# Altium schematic symbol library Nuvoton_NUC123 Series.SchLib: 12 symbols
Pins are listed as number, name and electrical type; pins without a type are passive.

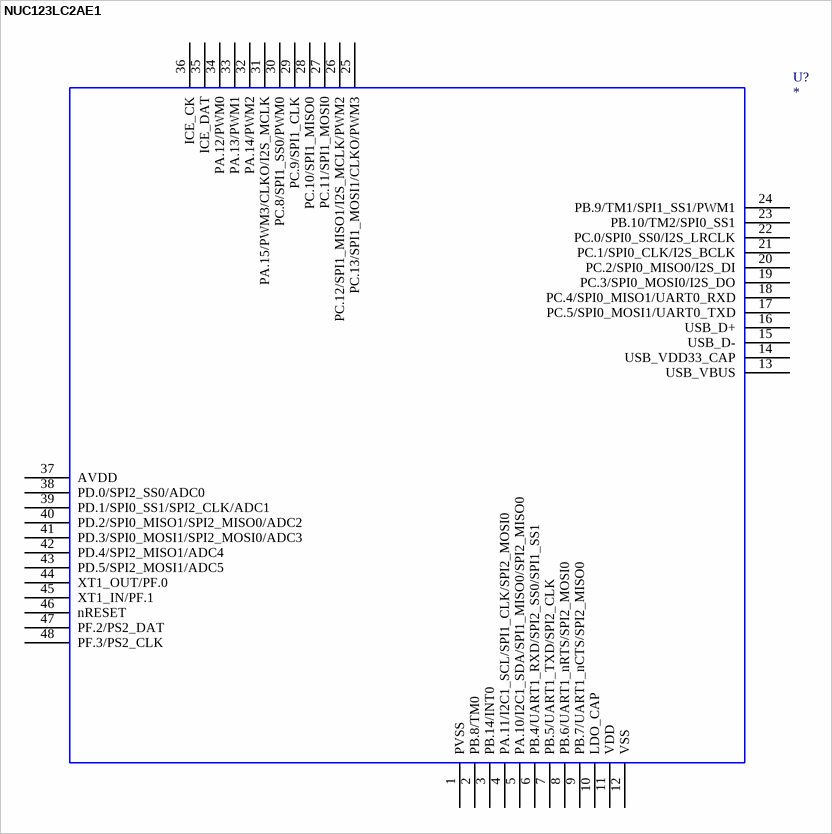
[diagram p0: symbol NUC123LC2AE1]

## NUC123LC2AE1
designator U?
NUC123LC2AE1; OriginalSymbolOrigin: *; NUC123LC2AE1: *; Value: *
footprint __MCU_LQFP_48__
pins: 1 PVSS, 2 PB.8/TM0, 3 PB.14/INT0, 4 PA.11/I2C1_SCL/SPI1_CLK/SPI2_MOSI0, 5 PA.10/I2C1_SDA/SPI1_MISO0/SPI2_MISO0, 6 PB.4/UART1_RXD/SPI2_SS0/SPI1_SS1, 7 PB.5/UART1_TXD/SPI2_CLK, 8 PB.6/UART1_nRTS/SPI2_MOSI0, 9 PB.7/UART1_nCTS/SPI2_MISO0, 10 LDO_CAP, 11 VDD, 12 VSS, 13 USB_VBUS, 14 USB_VDD33_CAP, 15 USB_D-, 16 USB_D+, 17 PC.5/SPI0_MOSI1/UART0_TXD, 18 PC.4/SPI0_MISO1/UART0_RXD, 19 PC.3/SPI0_MOSI0/I2S_DO, 20 PC.2/SPI0_MISO0/I2S_DI, 21 PC.1/SPI0_CLK/I2S_BCLK, 22 PC.0/SPI0_SS0/I2S_LRCLK, 23 PB.10/TM2/SPI0_SS1, 24 PB.9/TM1/SPI1_SS1/PWM1, 25 PC.13/SPI1_MOSI1/CLKO/PWM3, 26 PC.12/SPI1_MISO1/I2S_MCLK/PWM2, 27 PC.11/SPI1_MOSI0, 28 PC.10/SPI1_MISO0, 29 PC.9/SPI1_CLK, 30 PC.8/SPI1_SS0/PWM0, 31 PA.15/PWM3/CLKO/I2S_MCLK, 32 PA.14/PWM2, 33 PA.13/PWM1, 34 PA.12/PWM0, 35 ICE_DAT, 36 ICE_CK, 37 AVDD, 38 PD.0/SPI2_SS0/ADC0, 39 PD.1/SPI0_SS1/SPI2_CLK/ADC1, 40 PD.2/SPI0_MISO1/SPI2_MISO0/ADC2, 41 PD.3/SPI0_MOSI1/SPI2_MOSI0/ADC3, 42 PD.4/SPI2_MISO1/ADC4, 43 PD.5/SPI2_MOSI1/ADC5, 44 XT1_OUT/PF.0, 45 XT1_IN/PF.1, 46 nRESET, 47 PF.2/PS2_DAT, 48 PF.3/PS2_CLK
2 alternate drawings of the same symbol

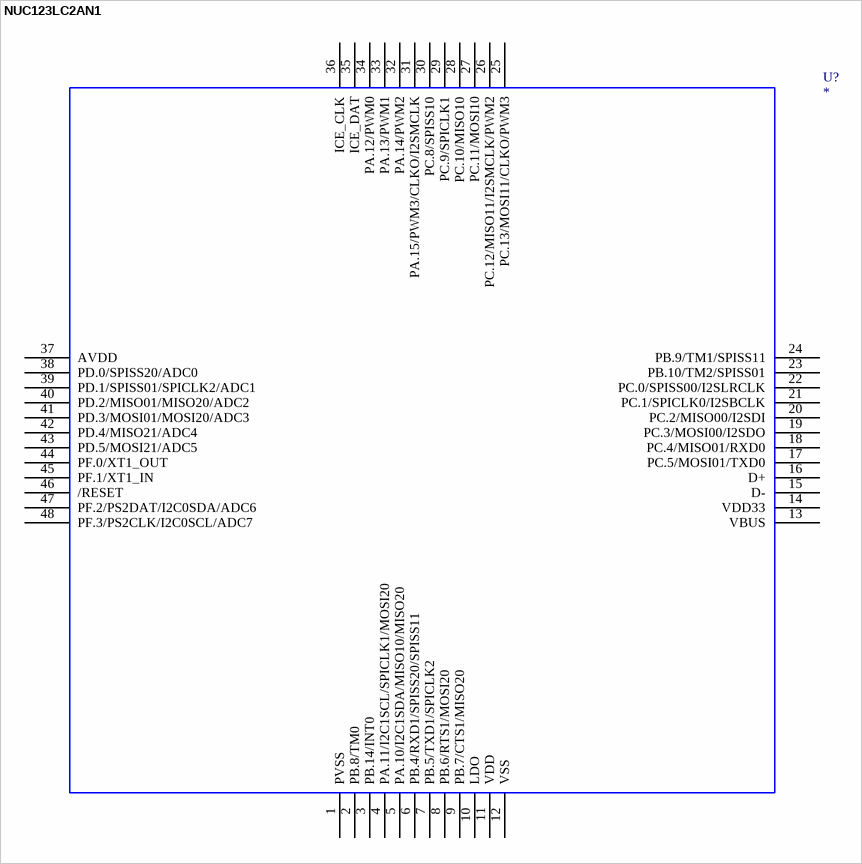
[diagram p1: symbol NUC123LC2AN1]

## NUC123LC2AN1
designator U?
NUC123LC2AN1; OriginalSymbolOrigin: *; NUC123LC2AN1: *; Value: *
footprint __MCU_LQFP_48__
pins: 1 PVSS, 2 PB.8/TM0, 3 PB.14/INT0, 4 PA.11/I2C1SCL/SPICLK1/MOSI20, 5 PA.10/I2C1SDA/MISO10/MISO20, 6 PB.4/RXD1/SPISS20/SPISS11, 7 PB.5/TXD1/SPICLK2, 8 PB.6/RTS1/MOSI20, 9 PB.7/CTS1/MISO20, 10 LDO, 11 VDD, 12 VSS, 13 VBUS, 14 VDD33, 15 D-, 16 D+, 17 PC.5/MOSI01/TXD0, 18 PC.4/MISO01/RXD0, 19 PC.3/MOSI00/I2SDO, 20 PC.2/MISO00/I2SDI, 21 PC.1/SPICLK0/I2SBCLK, 22 PC.0/SPISS00/I2SLRCLK, 23 PB.10/TM2/SPISS01, 24 PB.9/TM1/SPISS11, 25 PC.13/MOSI11/CLKO/PWM3, 26 PC.12/MISO11/I2SMCLK/PWM2, 27 PC.11/MOSI10, 28 PC.10/MISO10, 29 PC.9/SPICLK1, 30 PC.8/SPISS10, 31 PA.15/PWM3/CLKO/I2SMCLK, 32 PA.14/PWM2, 33 PA.13/PWM1, 34 PA.12/PWM0, 35 ICE_DAT, 36 ICE_CLK, 37 AVDD, 38 PD.0/SPISS20/ADC0, 39 PD.1/SPISS01/SPICLK2/ADC1, 40 PD.2/MISO01/MISO20/ADC2, 41 PD.3/MOSI01/MOSI20/ADC3, 42 PD.4/MISO21/ADC4, 43 PD.5/MOSI21/ADC5, 44 PF.0/XT1_OUT, 45 PF.1/XT1_IN, 46 /RESET, 47 PF.2/PS2DAT/I2C0SDA/ADC6, 48 PF.3/PS2CLK/I2C0SCL/ADC7
2 alternate drawings of the same symbol

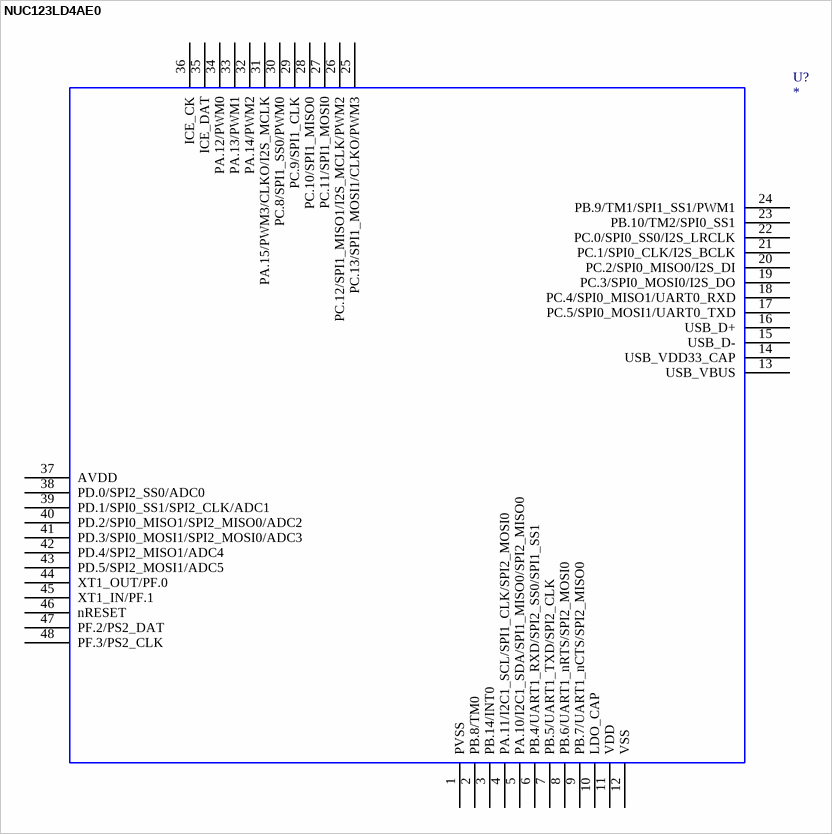
[diagram p2: symbol NUC123LD4AE0]

## NUC123LD4AE0
designator U?
NUC123LD4AE0; OriginalSymbolOrigin: *; NUC123LD4AE0: *; Value: *
footprint __MCU_LQFP_48__
pins: 1 PVSS, 2 PB.8/TM0, 3 PB.14/INT0, 4 PA.11/I2C1_SCL/SPI1_CLK/SPI2_MOSI0, 5 PA.10/I2C1_SDA/SPI1_MISO0/SPI2_MISO0, 6 PB.4/UART1_RXD/SPI2_SS0/SPI1_SS1, 7 PB.5/UART1_TXD/SPI2_CLK, 8 PB.6/UART1_nRTS/SPI2_MOSI0, 9 PB.7/UART1_nCTS/SPI2_MISO0, 10 LDO_CAP, 11 VDD, 12 VSS, 13 USB_VBUS, 14 USB_VDD33_CAP, 15 USB_D-, 16 USB_D+, 17 PC.5/SPI0_MOSI1/UART0_TXD, 18 PC.4/SPI0_MISO1/UART0_RXD, 19 PC.3/SPI0_MOSI0/I2S_DO, 20 PC.2/SPI0_MISO0/I2S_DI, 21 PC.1/SPI0_CLK/I2S_BCLK, 22 PC.0/SPI0_SS0/I2S_LRCLK, 23 PB.10/TM2/SPI0_SS1, 24 PB.9/TM1/SPI1_SS1/PWM1, 25 PC.13/SPI1_MOSI1/CLKO/PWM3, 26 PC.12/SPI1_MISO1/I2S_MCLK/PWM2, 27 PC.11/SPI1_MOSI0, 28 PC.10/SPI1_MISO0, 29 PC.9/SPI1_CLK, 30 PC.8/SPI1_SS0/PWM0, 31 PA.15/PWM3/CLKO/I2S_MCLK, 32 PA.14/PWM2, 33 PA.13/PWM1, 34 PA.12/PWM0, 35 ICE_DAT, 36 ICE_CK, 37 AVDD, 38 PD.0/SPI2_SS0/ADC0, 39 PD.1/SPI0_SS1/SPI2_CLK/ADC1, 40 PD.2/SPI0_MISO1/SPI2_MISO0/ADC2, 41 PD.3/SPI0_MOSI1/SPI2_MOSI0/ADC3, 42 PD.4/SPI2_MISO1/ADC4, 43 PD.5/SPI2_MOSI1/ADC5, 44 XT1_OUT/PF.0, 45 XT1_IN/PF.1, 46 nRESET, 47 PF.2/PS2_DAT, 48 PF.3/PS2_CLK
2 alternate drawings of the same symbol

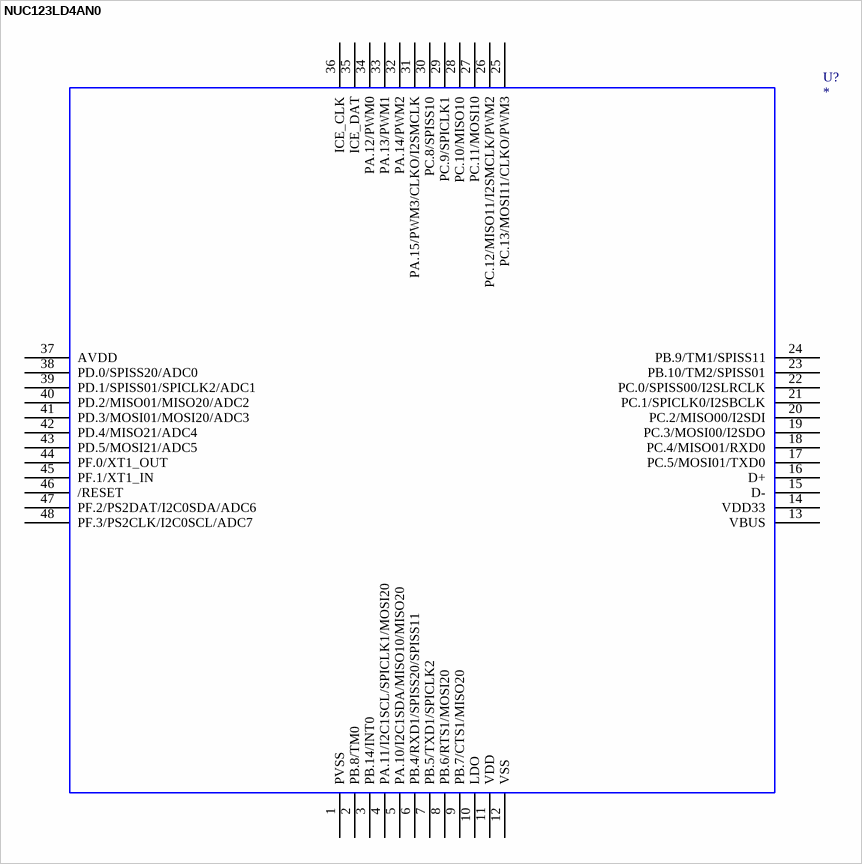
[diagram p3: symbol NUC123LD4AN0]

## NUC123LD4AN0
designator U?
NUC123LD4AN0; OriginalSymbolOrigin: *; NUC123LD4AN0: *; Value: *
footprint __MCU_LQFP_48__
pins: 1 PVSS, 2 PB.8/TM0, 3 PB.14/INT0, 4 PA.11/I2C1SCL/SPICLK1/MOSI20, 5 PA.10/I2C1SDA/MISO10/MISO20, 6 PB.4/RXD1/SPISS20/SPISS11, 7 PB.5/TXD1/SPICLK2, 8 PB.6/RTS1/MOSI20, 9 PB.7/CTS1/MISO20, 10 LDO, 11 VDD, 12 VSS, 13 VBUS, 14 VDD33, 15 D-, 16 D+, 17 PC.5/MOSI01/TXD0, 18 PC.4/MISO01/RXD0, 19 PC.3/MOSI00/I2SDO, 20 PC.2/MISO00/I2SDI, 21 PC.1/SPICLK0/I2SBCLK, 22 PC.0/SPISS00/I2SLRCLK, 23 PB.10/TM2/SPISS01, 24 PB.9/TM1/SPISS11, 25 PC.13/MOSI11/CLKO/PWM3, 26 PC.12/MISO11/I2SMCLK/PWM2, 27 PC.11/MOSI10, 28 PC.10/MISO10, 29 PC.9/SPICLK1, 30 PC.8/SPISS10, 31 PA.15/PWM3/CLKO/I2SMCLK, 32 PA.14/PWM2, 33 PA.13/PWM1, 34 PA.12/PWM0, 35 ICE_DAT, 36 ICE_CLK, 37 AVDD, 38 PD.0/SPISS20/ADC0, 39 PD.1/SPISS01/SPICLK2/ADC1, 40 PD.2/MISO01/MISO20/ADC2, 41 PD.3/MOSI01/MOSI20/ADC3, 42 PD.4/MISO21/ADC4, 43 PD.5/MOSI21/ADC5, 44 PF.0/XT1_OUT, 45 PF.1/XT1_IN, 46 /RESET, 47 PF.2/PS2DAT/I2C0SDA/ADC6, 48 PF.3/PS2CLK/I2C0SCL/ADC7
2 alternate drawings of the same symbol

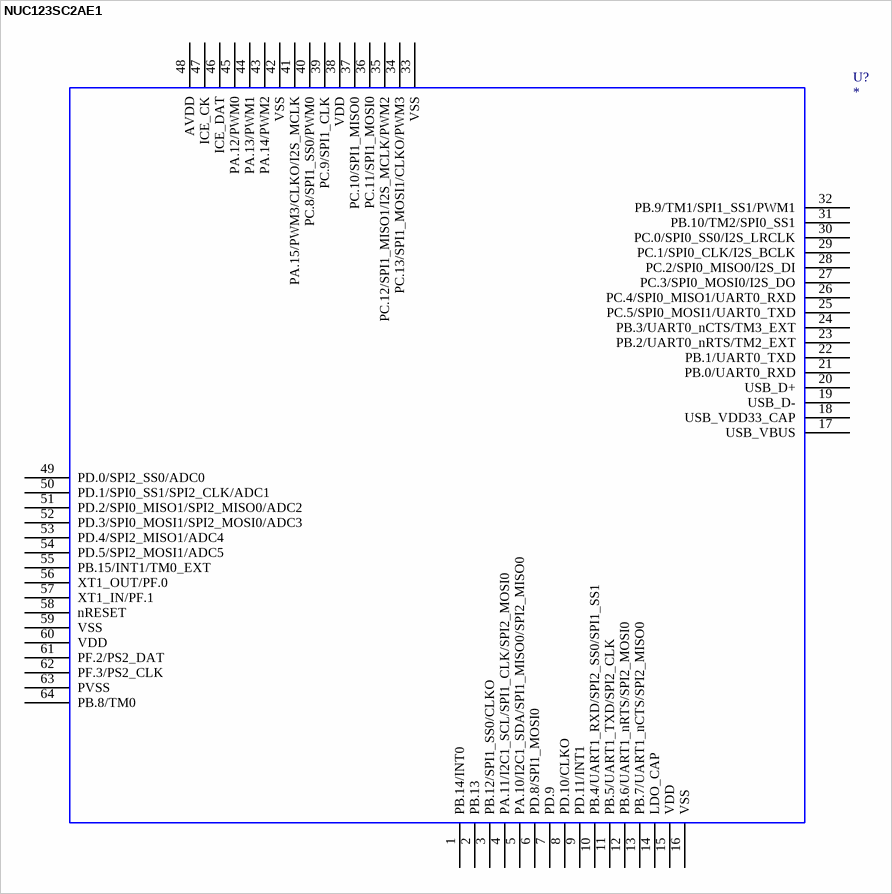
[diagram p4: symbol NUC123SC2AE1]

## NUC123SC2AE1
designator U?
NUC123SC2AE1; OriginalSymbolOrigin: *; NUC123SC2AE1: *; Value: *
footprint __MCU_LQFP_64_7x7__
pins: 1 PB.14/INT0, 2 PB.13, 3 PB.12/SPI1_SS0/CLKO, 4 PA.11/I2C1_SCL/SPI1_CLK/SPI2_MOSI0, 5 PA.10/I2C1_SDA/SPI1_MISO0/SPI2_MISO0, 6 PD.8/SPI1_MOSI0, 7 PD.9, 8 PD.10/CLKO, 9 PD.11/INT1, 10 PB.4/UART1_RXD/SPI2_SS0/SPI1_SS1, 11 PB.5/UART1_TXD/SPI2_CLK, 12 PB.6/UART1_nRTS/SPI2_MOSI0, 13 PB.7/UART1_nCTS/SPI2_MISO0, 14 LDO_CAP, 15 VDD, 16 VSS, 17 USB_VBUS, 18 USB_VDD33_CAP, 19 USB_D-, 20 USB_D+, 21 PB.0/UART0_RXD, 22 PB.1/UART0_TXD, 23 PB.2/UART0_nRTS/TM2_EXT, 24 PB.3/UART0_nCTS/TM3_EXT, 25 PC.5/SPI0_MOSI1/UART0_TXD, 26 PC.4/SPI0_MISO1/UART0_RXD, 27 PC.3/SPI0_MOSI0/I2S_DO, 28 PC.2/SPI0_MISO0/I2S_DI, 29 PC.1/SPI0_CLK/I2S_BCLK, 30 PC.0/SPI0_SS0/I2S_LRCLK, 31 PB.10/TM2/SPI0_SS1, 32 PB.9/TM1/SPI1_SS1/PWM1, 33 VSS, 34 PC.13/SPI1_MOSI1/CLKO/PWM3, 35 PC.12/SPI1_MISO1/I2S_MCLK/PWM2, 36 PC.11/SPI1_MOSI0, 37 PC.10/SPI1_MISO0, 38 VDD, 39 PC.9/SPI1_CLK, 40 PC.8/SPI1_SS0/PWM0, 41 PA.15/PWM3/CLKO/I2S_MCLK, 42 VSS, 43 PA.14/PWM2, 44 PA.13/PWM1, 45 PA.12/PWM0, 46 ICE_DAT, 47 ICE_CK, 48 AVDD, 49 PD.0/SPI2_SS0/ADC0, 50 PD.1/SPI0_SS1/SPI2_CLK/ADC1, 51 PD.2/SPI0_MISO1/SPI2_MISO0/ADC2, 52 PD.3/SPI0_MOSI1/SPI2_MOSI0/ADC3, 53 PD.4/SPI2_MISO1/ADC4, 54 PD.5/SPI2_MOSI1/ADC5, 55 PB.15/INT1/TM0_EXT, 56 XT1_OUT/PF.0, 57 XT1_IN/PF.1, 58 nRESET, 59 VSS, 60 VDD, 61 PF.2/PS2_DAT, 62 PF.3/PS2_CLK, 63 PVSS, 64 PB.8/TM0
2 alternate drawings of the same symbol

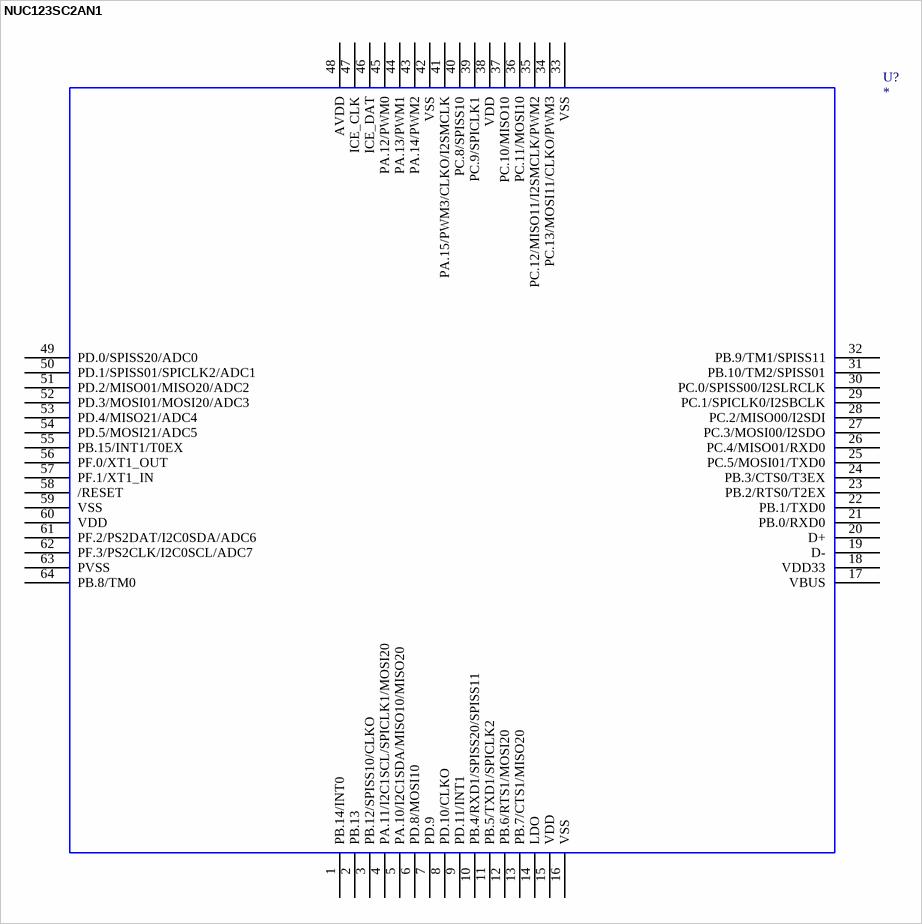
[diagram p5: symbol NUC123SC2AN1]

## NUC123SC2AN1
designator U?
NUC123SC2AN1; OriginalSymbolOrigin: *; NUC123SC2AN1: *; Value: *
footprint __MCU_LQFP_64_7x7__
pins: 1 PB.14/INT0, 2 PB.13, 3 PB.12/SPISS10/CLKO, 4 PA.11/I2C1SCL/SPICLK1/MOSI20, 5 PA.10/I2C1SDA/MISO10/MISO20, 6 PD.8/MOSI10, 7 PD.9, 8 PD.10/CLKO, 9 PD.11/INT1, 10 PB.4/RXD1/SPISS20/SPISS11, 11 PB.5/TXD1/SPICLK2, 12 PB.6/RTS1/MOSI20, 13 PB.7/CTS1/MISO20, 14 LDO, 15 VDD, 16 VSS, 17 VBUS, 18 VDD33, 19 D-, 20 D+, 21 PB.0/RXD0, 22 PB.1/TXD0, 23 PB.2/RTS0/T2EX, 24 PB.3/CTS0/T3EX, 25 PC.5/MOSI01/TXD0, 26 PC.4/MISO01/RXD0, 27 PC.3/MOSI00/I2SDO, 28 PC.2/MISO00/I2SDI, 29 PC.1/SPICLK0/I2SBCLK, 30 PC.0/SPISS00/I2SLRCLK, 31 PB.10/TM2/SPISS01, 32 PB.9/TM1/SPISS11, 33 VSS, 34 PC.13/MOSI11/CLKO/PWM3, 35 PC.12/MISO11/I2SMCLK/PWM2, 36 PC.11/MOSI10, 37 PC.10/MISO10, 38 VDD, 39 PC.9/SPICLK1, 40 PC.8/SPISS10, 41 PA.15/PWM3/CLKO/I2SMCLK, 42 VSS, 43 PA.14/PWM2, 44 PA.13/PWM1, 45 PA.12/PWM0, 46 ICE_DAT, 47 ICE_CLK, 48 AVDD, 49 PD.0/SPISS20/ADC0, 50 PD.1/SPISS01/SPICLK2/ADC1, 51 PD.2/MISO01/MISO20/ADC2, 52 PD.3/MOSI01/MOSI20/ADC3, 53 PD.4/MISO21/ADC4, 54 PD.5/MOSI21/ADC5, 55 PB.15/INT1/T0EX, 56 PF.0/XT1_OUT, 57 PF.1/XT1_IN, 58 /RESET, 59 VSS, 60 VDD, 61 PF.2/PS2DAT/I2C0SDA/ADC6, 62 PF.3/PS2CLK/I2C0SCL/ADC7, 63 PVSS, 64 PB.8/TM0
2 alternate drawings of the same symbol

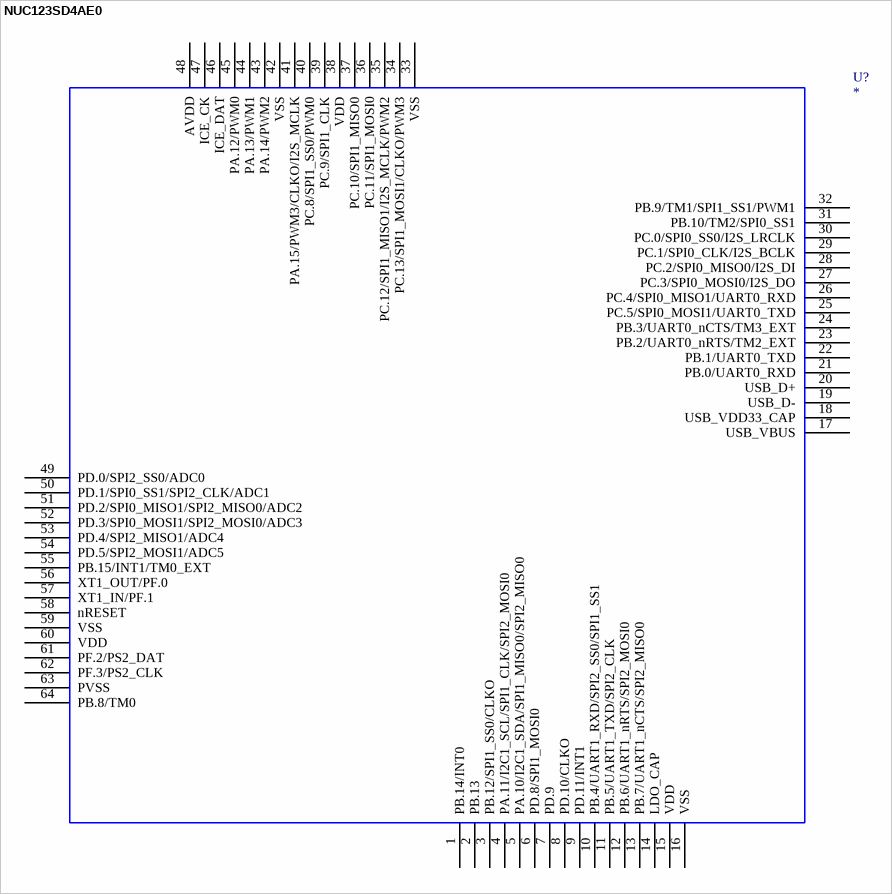
[diagram p6: symbol NUC123SD4AE0]

## NUC123SD4AE0
designator U?
NUC123SD4AE0; OriginalSymbolOrigin: *; NUC123SD4AE0: *; Value: *
footprint __MCU_LQFP_64_7x7__
pins: 1 PB.14/INT0, 2 PB.13, 3 PB.12/SPI1_SS0/CLKO, 4 PA.11/I2C1_SCL/SPI1_CLK/SPI2_MOSI0, 5 PA.10/I2C1_SDA/SPI1_MISO0/SPI2_MISO0, 6 PD.8/SPI1_MOSI0, 7 PD.9, 8 PD.10/CLKO, 9 PD.11/INT1, 10 PB.4/UART1_RXD/SPI2_SS0/SPI1_SS1, 11 PB.5/UART1_TXD/SPI2_CLK, 12 PB.6/UART1_nRTS/SPI2_MOSI0, 13 PB.7/UART1_nCTS/SPI2_MISO0, 14 LDO_CAP, 15 VDD, 16 VSS, 17 USB_VBUS, 18 USB_VDD33_CAP, 19 USB_D-, 20 USB_D+, 21 PB.0/UART0_RXD, 22 PB.1/UART0_TXD, 23 PB.2/UART0_nRTS/TM2_EXT, 24 PB.3/UART0_nCTS/TM3_EXT, 25 PC.5/SPI0_MOSI1/UART0_TXD, 26 PC.4/SPI0_MISO1/UART0_RXD, 27 PC.3/SPI0_MOSI0/I2S_DO, 28 PC.2/SPI0_MISO0/I2S_DI, 29 PC.1/SPI0_CLK/I2S_BCLK, 30 PC.0/SPI0_SS0/I2S_LRCLK, 31 PB.10/TM2/SPI0_SS1, 32 PB.9/TM1/SPI1_SS1/PWM1, 33 VSS, 34 PC.13/SPI1_MOSI1/CLKO/PWM3, 35 PC.12/SPI1_MISO1/I2S_MCLK/PWM2, 36 PC.11/SPI1_MOSI0, 37 PC.10/SPI1_MISO0, 38 VDD, 39 PC.9/SPI1_CLK, 40 PC.8/SPI1_SS0/PWM0, 41 PA.15/PWM3/CLKO/I2S_MCLK, 42 VSS, 43 PA.14/PWM2, 44 PA.13/PWM1, 45 PA.12/PWM0, 46 ICE_DAT, 47 ICE_CK, 48 AVDD, 49 PD.0/SPI2_SS0/ADC0, 50 PD.1/SPI0_SS1/SPI2_CLK/ADC1, 51 PD.2/SPI0_MISO1/SPI2_MISO0/ADC2, 52 PD.3/SPI0_MOSI1/SPI2_MOSI0/ADC3, 53 PD.4/SPI2_MISO1/ADC4, 54 PD.5/SPI2_MOSI1/ADC5, 55 PB.15/INT1/TM0_EXT, 56 XT1_OUT/PF.0, 57 XT1_IN/PF.1, 58 nRESET, 59 VSS, 60 VDD, 61 PF.2/PS2_DAT, 62 PF.3/PS2_CLK, 63 PVSS, 64 PB.8/TM0
2 alternate drawings of the same symbol

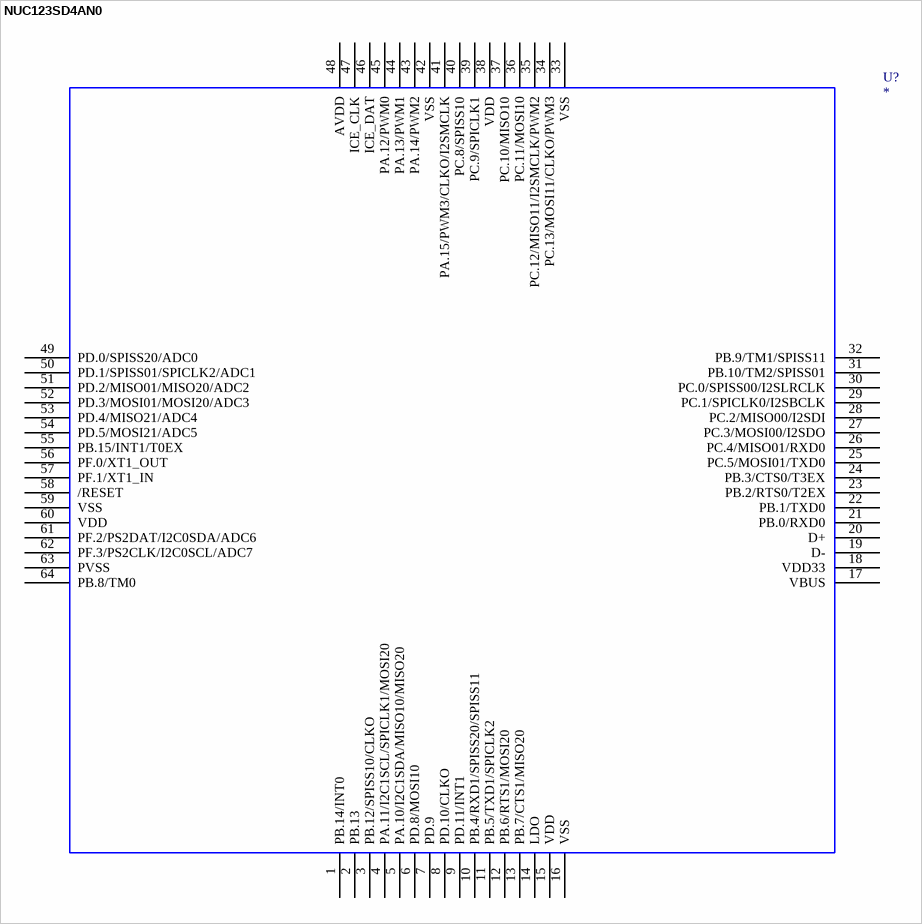
[diagram p7: symbol NUC123SD4AN0]

## NUC123SD4AN0
designator U?
NUC123SD4AN0; OriginalSymbolOrigin: *; NUC123SD4AN0: *; Value: *
footprint __MCU_LQFP_64_7x7__
pins: 1 PB.14/INT0, 2 PB.13, 3 PB.12/SPISS10/CLKO, 4 PA.11/I2C1SCL/SPICLK1/MOSI20, 5 PA.10/I2C1SDA/MISO10/MISO20, 6 PD.8/MOSI10, 7 PD.9, 8 PD.10/CLKO, 9 PD.11/INT1, 10 PB.4/RXD1/SPISS20/SPISS11, 11 PB.5/TXD1/SPICLK2, 12 PB.6/RTS1/MOSI20, 13 PB.7/CTS1/MISO20, 14 LDO, 15 VDD, 16 VSS, 17 VBUS, 18 VDD33, 19 D-, 20 D+, 21 PB.0/RXD0, 22 PB.1/TXD0, 23 PB.2/RTS0/T2EX, 24 PB.3/CTS0/T3EX, 25 PC.5/MOSI01/TXD0, 26 PC.4/MISO01/RXD0, 27 PC.3/MOSI00/I2SDO, 28 PC.2/MISO00/I2SDI, 29 PC.1/SPICLK0/I2SBCLK, 30 PC.0/SPISS00/I2SLRCLK, 31 PB.10/TM2/SPISS01, 32 PB.9/TM1/SPISS11, 33 VSS, 34 PC.13/MOSI11/CLKO/PWM3, 35 PC.12/MISO11/I2SMCLK/PWM2, 36 PC.11/MOSI10, 37 PC.10/MISO10, 38 VDD, 39 PC.9/SPICLK1, 40 PC.8/SPISS10, 41 PA.15/PWM3/CLKO/I2SMCLK, 42 VSS, 43 PA.14/PWM2, 44 PA.13/PWM1, 45 PA.12/PWM0, 46 ICE_DAT, 47 ICE_CLK, 48 AVDD, 49 PD.0/SPISS20/ADC0, 50 PD.1/SPISS01/SPICLK2/ADC1, 51 PD.2/MISO01/MISO20/ADC2, 52 PD.3/MOSI01/MOSI20/ADC3, 53 PD.4/MISO21/ADC4, 54 PD.5/MOSI21/ADC5, 55 PB.15/INT1/T0EX, 56 PF.0/XT1_OUT, 57 PF.1/XT1_IN, 58 /RESET, 59 VSS, 60 VDD, 61 PF.2/PS2DAT/I2C0SDA/ADC6, 62 PF.3/PS2CLK/I2C0SCL/ADC7, 63 PVSS, 64 PB.8/TM0
2 alternate drawings of the same symbol

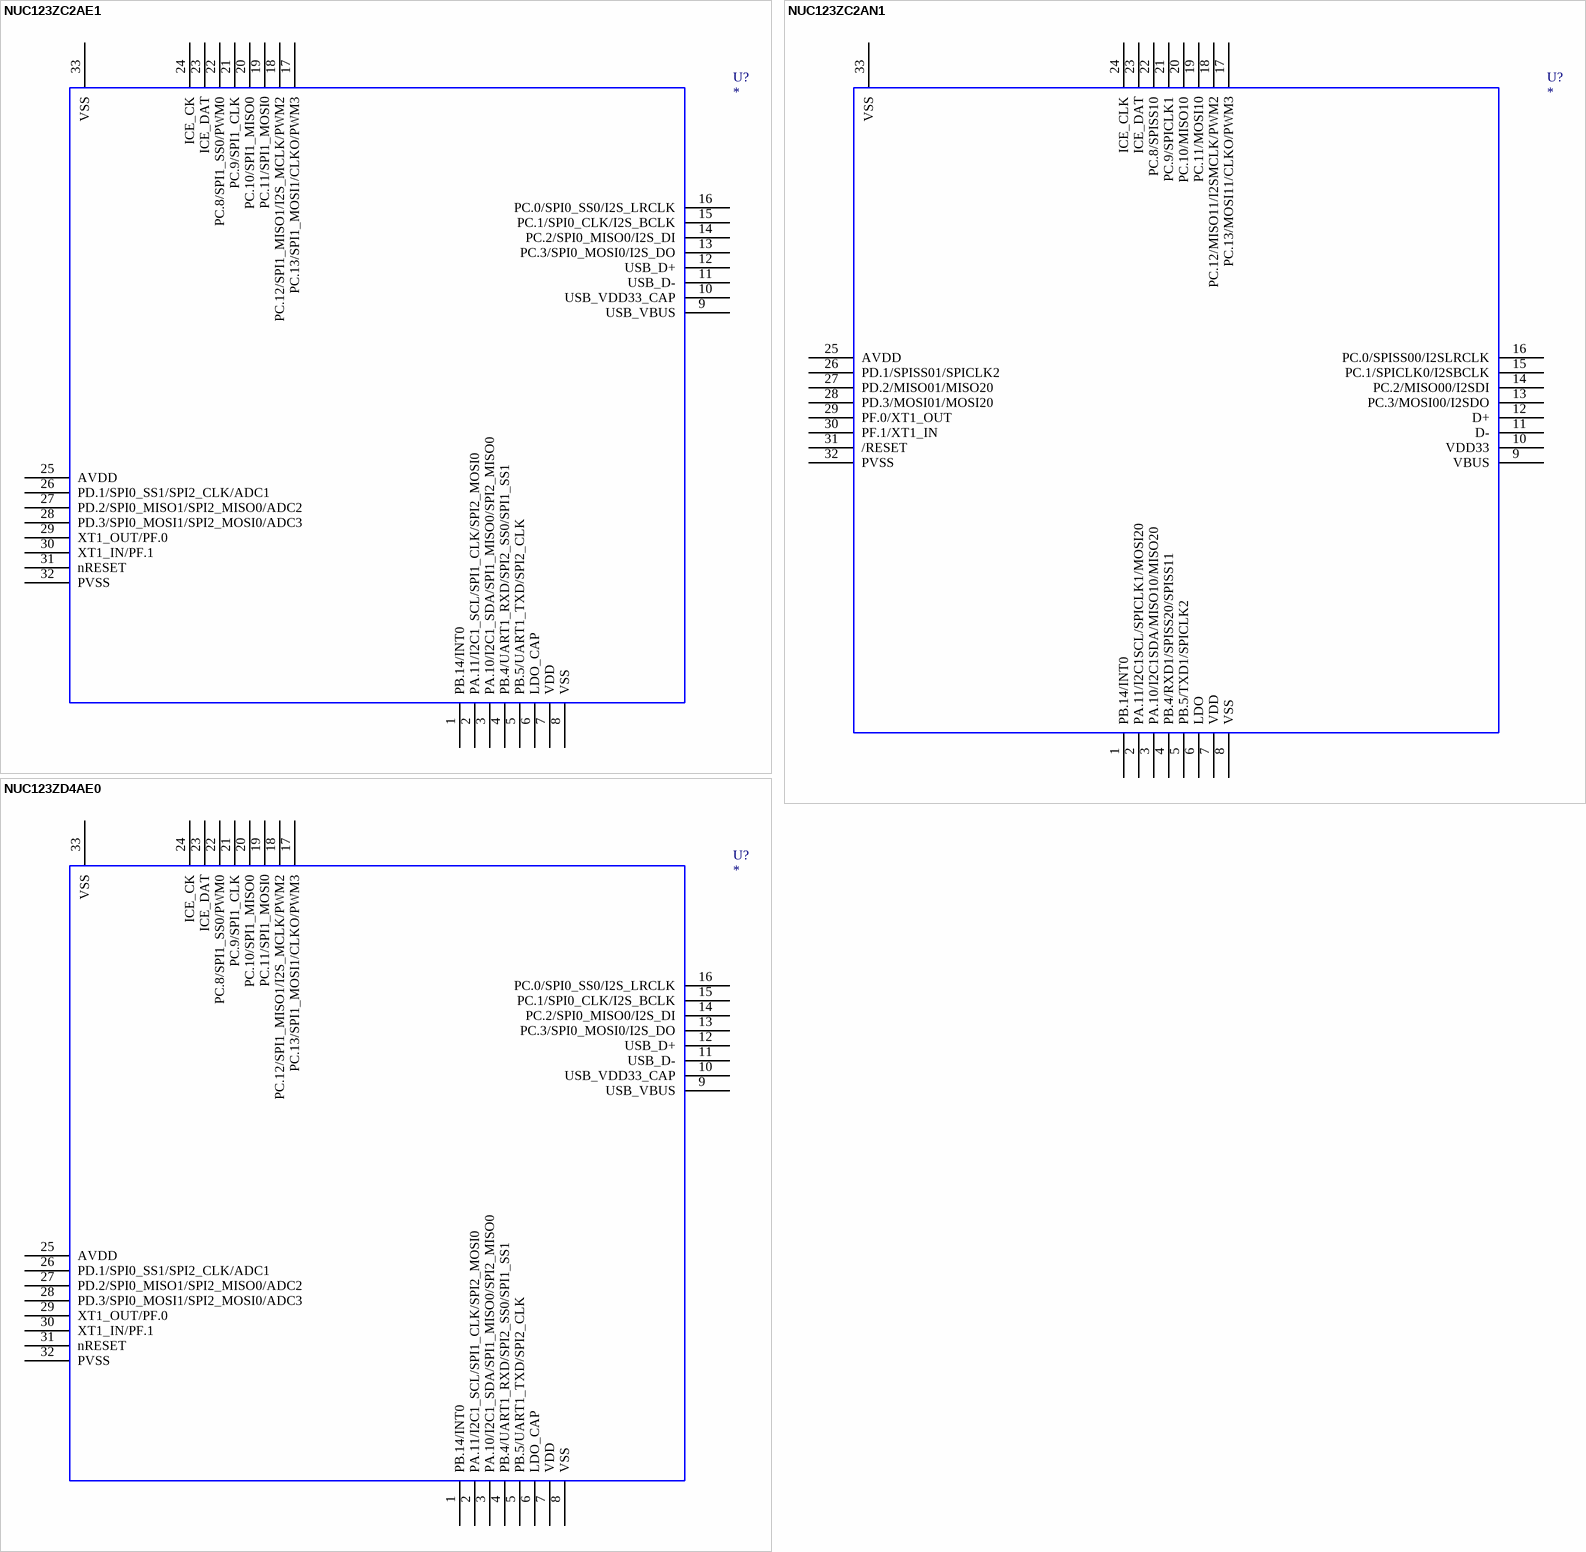
[diagram p8: symbols NUC123ZC2AE1 to NUC123ZD4AE0]

## NUC123ZC2AE1
designator U?
NUC123ZC2AE1; OriginalSymbolOrigin: *; NUC123ZC2AE1: *; Value: *
footprint __MCU_QFN_33_5x5__
pins: 1 PB.14/INT0, 2 PA.11/I2C1_SCL/SPI1_CLK/SPI2_MOSI0, 3 PA.10/I2C1_SDA/SPI1_MISO0/SPI2_MISO0, 4 PB.4/UART1_RXD/SPI2_SS0/SPI1_SS1, 5 PB.5/UART1_TXD/SPI2_CLK, 6 LDO_CAP, 7 VDD, 8 VSS, 9 USB_VBUS, 10 USB_VDD33_CAP, 11 USB_D-, 12 USB_D+, 13 PC.3/SPI0_MOSI0/I2S_DO, 14 PC.2/SPI0_MISO0/I2S_DI, 15 PC.1/SPI0_CLK/I2S_BCLK, 16 PC.0/SPI0_SS0/I2S_LRCLK, 17 PC.13/SPI1_MOSI1/CLKO/PWM3, 18 PC.12/SPI1_MISO1/I2S_MCLK/PWM2, 19 PC.11/SPI1_MOSI0, 20 PC.10/SPI1_MISO0, 21 PC.9/SPI1_CLK, 22 PC.8/SPI1_SS0/PWM0, 23 ICE_DAT, 24 ICE_CK, 25 AVDD, 26 PD.1/SPI0_SS1/SPI2_CLK/ADC1, 27 PD.2/SPI0_MISO1/SPI2_MISO0/ADC2, 28 PD.3/SPI0_MOSI1/SPI2_MOSI0/ADC3, 29 XT1_OUT/PF.0, 30 XT1_IN/PF.1, 31 nRESET, 32 PVSS, 33 VSS
2 alternate drawings of the same symbol

## NUC123ZC2AN1
designator U?
NUC123ZC2AN1; OriginalSymbolOrigin: *; NUC123ZC2AN1: *; Value: *
footprint __MCU_QFN_33_5x5__
pins: 1 PB.14/INT0, 2 PA.11/I2C1SCL/SPICLK1/MOSI20, 3 PA.10/I2C1SDA/MISO10/MISO20, 4 PB.4/RXD1/SPISS20/SPISS11, 5 PB.5/TXD1/SPICLK2, 6 LDO, 7 VDD, 8 VSS, 9 VBUS, 10 VDD33, 11 D-, 12 D+, 13 PC.3/MOSI00/I2SDO, 14 PC.2/MISO00/I2SDI, 15 PC.1/SPICLK0/I2SBCLK, 16 PC.0/SPISS00/I2SLRCLK, 17 PC.13/MOSI11/CLKO/PWM3, 18 PC.12/MISO11/I2SMCLK/PWM2, 19 PC.11/MOSI10, 20 PC.10/MISO10, 21 PC.9/SPICLK1, 22 PC.8/SPISS10, 23 ICE_DAT, 24 ICE_CLK, 25 AVDD, 26 PD.1/SPISS01/SPICLK2, 27 PD.2/MISO01/MISO20, 28 PD.3/MOSI01/MOSI20, 29 PF.0/XT1_OUT, 30 PF.1/XT1_IN, 31 /RESET, 32 PVSS, 33 VSS
2 alternate drawings of the same symbol

## NUC123ZD4AE0
designator U?
NUC123ZD4AE0; OriginalSymbolOrigin: *; NUC123ZD4AE0: *; Value: *
footprint __MCU_QFN_33_5x5__
pins: 1 PB.14/INT0, 2 PA.11/I2C1_SCL/SPI1_CLK/SPI2_MOSI0, 3 PA.10/I2C1_SDA/SPI1_MISO0/SPI2_MISO0, 4 PB.4/UART1_RXD/SPI2_SS0/SPI1_SS1, 5 PB.5/UART1_TXD/SPI2_CLK, 6 LDO_CAP, 7 VDD, 8 VSS, 9 USB_VBUS, 10 USB_VDD33_CAP, 11 USB_D-, 12 USB_D+, 13 PC.3/SPI0_MOSI0/I2S_DO, 14 PC.2/SPI0_MISO0/I2S_DI, 15 PC.1/SPI0_CLK/I2S_BCLK, 16 PC.0/SPI0_SS0/I2S_LRCLK, 17 PC.13/SPI1_MOSI1/CLKO/PWM3, 18 PC.12/SPI1_MISO1/I2S_MCLK/PWM2, 19 PC.11/SPI1_MOSI0, 20 PC.10/SPI1_MISO0, 21 PC.9/SPI1_CLK, 22 PC.8/SPI1_SS0/PWM0, 23 ICE_DAT, 24 ICE_CK, 25 AVDD, 26 PD.1/SPI0_SS1/SPI2_CLK/ADC1, 27 PD.2/SPI0_MISO1/SPI2_MISO0/ADC2, 28 PD.3/SPI0_MOSI1/SPI2_MOSI0/ADC3, 29 XT1_OUT/PF.0, 30 XT1_IN/PF.1, 31 nRESET, 32 PVSS, 33 VSS
2 alternate drawings of the same symbol

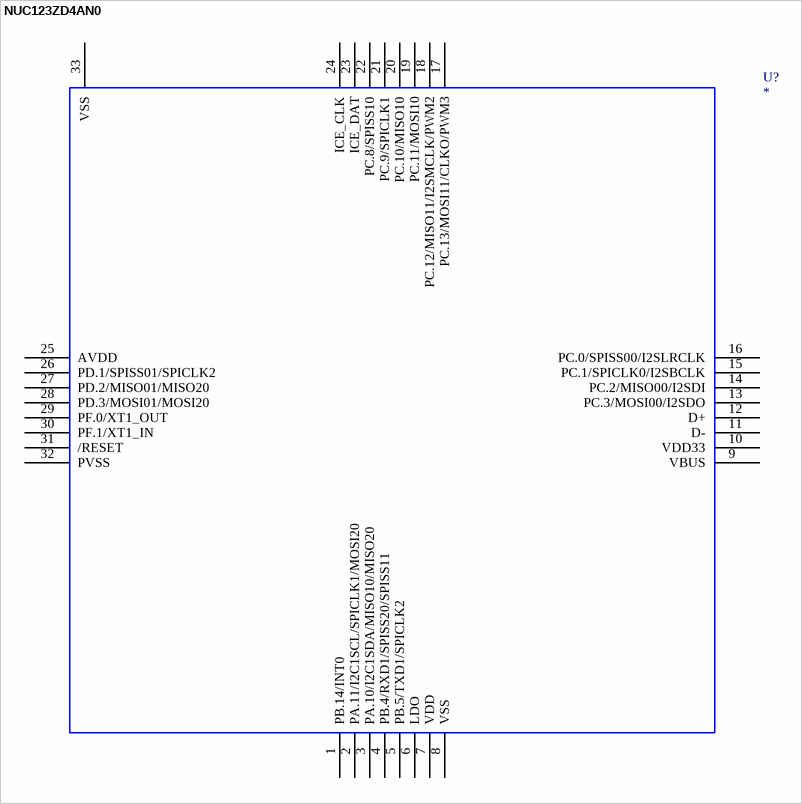
[diagram p9: symbol NUC123ZD4AN0]

## NUC123ZD4AN0
designator U?
NUC123ZD4AN0; OriginalSymbolOrigin: *; NUC123ZD4AN0: *; Value: *
footprint __MCU_QFN_33_5x5__
pins: 1 PB.14/INT0, 2 PA.11/I2C1SCL/SPICLK1/MOSI20, 3 PA.10/I2C1SDA/MISO10/MISO20, 4 PB.4/RXD1/SPISS20/SPISS11, 5 PB.5/TXD1/SPICLK2, 6 LDO, 7 VDD, 8 VSS, 9 VBUS, 10 VDD33, 11 D-, 12 D+, 13 PC.3/MOSI00/I2SDO, 14 PC.2/MISO00/I2SDI, 15 PC.1/SPICLK0/I2SBCLK, 16 PC.0/SPISS00/I2SLRCLK, 17 PC.13/MOSI11/CLKO/PWM3, 18 PC.12/MISO11/I2SMCLK/PWM2, 19 PC.11/MOSI10, 20 PC.10/MISO10, 21 PC.9/SPICLK1, 22 PC.8/SPISS10, 23 ICE_DAT, 24 ICE_CLK, 25 AVDD, 26 PD.1/SPISS01/SPICLK2, 27 PD.2/MISO01/MISO20, 28 PD.3/MOSI01/MOSI20, 29 PF.0/XT1_OUT, 30 PF.1/XT1_IN, 31 /RESET, 32 PVSS, 33 VSS
2 alternate drawings of the same symbol